# Altium footprint library CAPC2012X145N.PcbLib: 2 footprints
Each footprint in its own frame and in the unit in brackets; x right, y up, seen from the top. Pads: shape width x height; smd on the part's side, far side on the other; paste and mask are expansions set on the pad; w line width, h text height; cw(c..) or ccw(c..) is an arc to the next point about the centre after c.
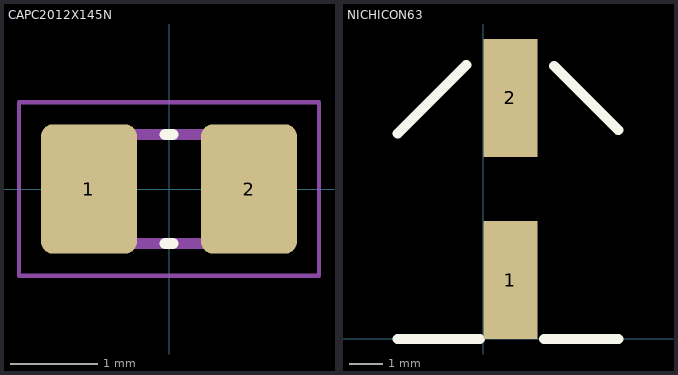
[diagram p0: the footprints below, top view; thin cyan lines are the x and y axes]

## CAPC2012X145N [mm]
height 1.45
pads (2):
  rrect25% 1.1x1.48 smd: 1(-0.915,0) 2(0.915,0)
Top Overlay:
  lines w0.127: -0.045,-0.625 0.045,-0.625 ; -0.045,0.625 0.045,0.625
Assembly Top:
  lines w0.127: -1,-0.625 -1,0.625 1,0.625 1,-0.625 -1,-0.625
Courtyard Top:
  lines w0.05: -1.715,-0.99 -1.715,0.99 1.715,0.99 1.715,-0.99 -1.715,-0.99
3D body "step_temp.STEP": height 1.45, standoff 0, extent -1,-0.625 1,0.625

## NICHICON63 [mm]
pads (2):
  rect 1.6x3.5 / inner rect 0x0 / far side rect 0x0 all layers, no hole: 1(0.8,1.75) 2(0.8,7.15)
Top Overlay:
  lines w0.3: -2.54,0 -0.1,0 ; -2.54,6.096 -0.508,8.128 ; 1.8,0 4,0 ; 2.1,8.1 4,6.2
3D body "6.3x5.8_Chip.stp": height 5.67, standoff -0.13, extent -2.6,0.9 4,7.9